# Altium footprint library 74HCT245D_STO163.PcbLib: 1 footprints
Each footprint in its own frame and in the unit in brackets; x right, y up, seen from the top. Pads: shape width x height; smd on the part's side, far side on the other; paste and mask are expansions set on the pad; w line width, h text height; cw(c..) or ccw(c..) is an arc to the next point about the centre after c.
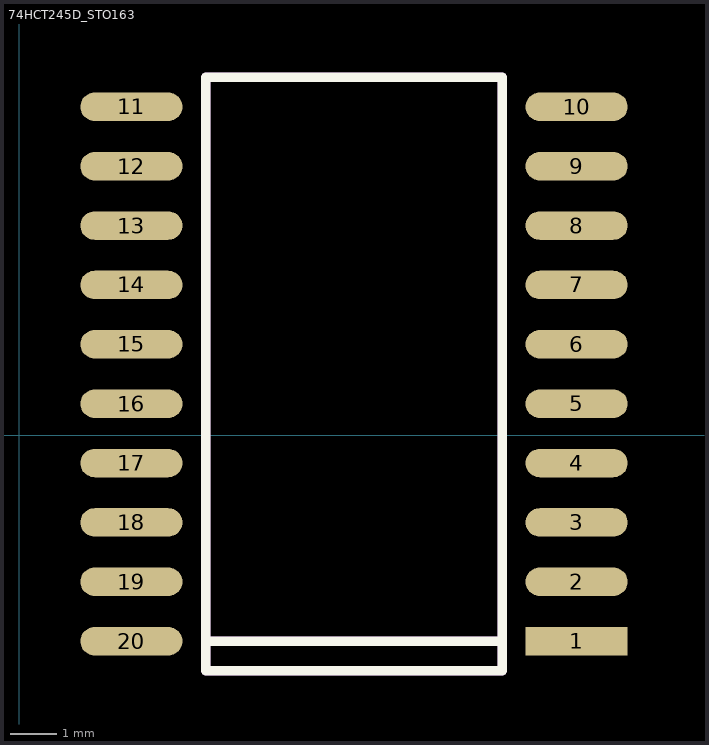
[diagram p0: the footprint, top view; thin cyan lines are the x and y axes]

## 74HCT245D_STO163 [mil]
pads (20):
  rect 86x24 smd: 1(469.6,-173.33)
  oval 86x24 smd: 2(469.6,-123.33) 3(469.6,-73.33) 4(469.6,-23.33) 5(469.6,26.67) 6(469.6,76.67) 7(469.6,126.67) 8(469.6,176.67) 9(469.6,226.67) 10(469.6,276.67) 11(94.6,276.67) 12(94.6,226.67) 13(94.6,176.67) 14(94.6,126.67) 15(94.6,76.67) 16(94.6,26.67) 17(94.6,-23.33) 18(94.6,-73.33) 19(94.6,-123.33) 20(94.6,-173.33)
Top Overlay:
  lines w8: 157.1,-173.33 407.1,-173.33 ; 157.1,-198.33 407.1,-198.33 407.1,301.67 157.1,301.67 157.1,-198.33
Mechanical 1:
  lines w8: 157.1,-173.33 407.1,-173.33 ; 157.1,-198.33 407.1,-198.33 407.1,301.67 157.1,301.67 157.1,-198.33